# EAGLE library part ADAFRUIT-MPRLS (library apollo-ctrl-v4)
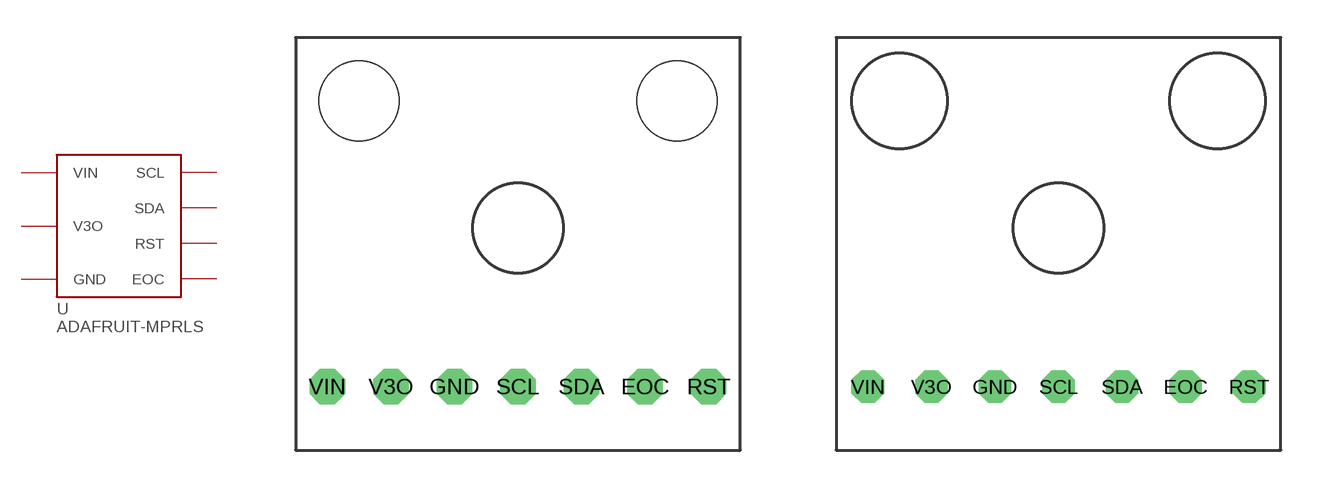
[diagram p8: symbol with the pads of ADAFRUIT-MPRLS; footprints ADAFRUIT-MPRLS, ADAFRUIT-MPRLS-NOHOLES]

Designator prefix U

## ADAFRUIT-MPRLS-W-HOLES  [ADAFRUIT-MPRLS]
EOC  EOC  out
GND  GND  in
RST  RST  in
SCL  SCL
SDA  SDA
V3O  V3O
VIN  VIN  in

## ADAFRUIT-MPRLS-NOHOLES  [ADAFRUIT-MPRLS-NOHOLES]
Pads as for ADAFRUIT-MPRLS

## Footprint ADAFRUIT-MPRLS (pad centres in mm)
drill 0.8 pad 1.422 octagon: EOC 5.08,2.54; GND -2.54,2.54; RST 7.62,2.54; SCL 0,2.54; SDA 2.54,2.54; V3O -5.08,2.54; VIN -7.62,2.54
hole 3.2 at -6.35,13.97
hole 3.2 at 6.35,13.97

## Footprint ADAFRUIT-MPRLS-NOHOLES (pad centres in mm)
drill 0.8 octagon: EOC 5.08,2.54; GND -2.54,2.54; RST 7.62,2.54; SCL 0,2.54; SDA 2.54,2.54; V3O -5.08,2.54; VIN -7.62,2.54